# Altium footprint library LMX8410RGZT.PcbLib: 3 footprints
Each footprint in its own frame and in the unit in brackets; x right, y up, seen from the top. Pads: shape width x height; smd on the part's side, far side on the other; paste and mask are expansions set on the pad; w line width, h text height; cw(c..) or ccw(c..) is an arc to the next point about the centre after c.
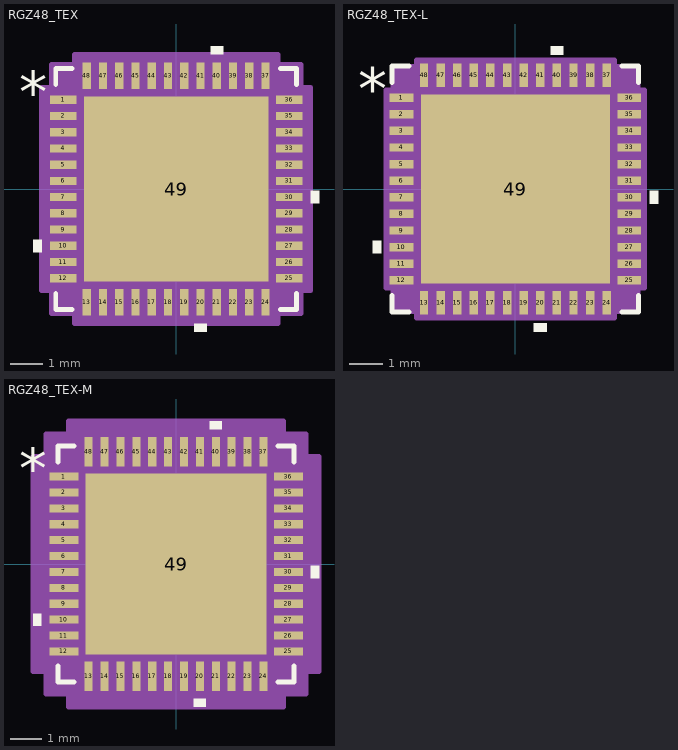
[diagram p0: the footprints below, top view; thin cyan lines are the x and y axes]

## RGZ48_TEX [mil]
pads (49):
  rect 32x10 smd paste+0 mask+0: 1(-137,108.27) 2(-137,88.58) 3(-137,68.9) 4(-137,49.21) 5(-137,29.53) 6(-137,9.84) 7(-137,-9.84) 8(-137,-29.53) 9(-137,-49.21) 10(-137,-68.9) 11(-137,-88.58) 12(-137,-108.27) 25(137,-108.27) 26(137,-88.58) 27(137,-68.9) 28(137,-49.21) 29(137,-29.53) 30(137,-9.84) 31(137,9.84) 32(137,29.53) 33(137,49.21) 34(137,68.9) 35(137,88.58) 36(137,108.27)
  rect 10x32 smd paste+0 mask+0: 13(-108.27,-137) 14(-88.58,-137) 15(-68.9,-137) 16(-49.21,-137) 17(-29.53,-137) 18(-9.84,-137) 19(9.84,-137) 20(29.53,-137) 21(49.21,-137) 22(68.9,-137) 23(88.58,-137) 24(108.27,-137) 37(108.27,137) 38(88.58,137) 39(68.9,137) 40(49.21,137) 41(29.53,137) 42(9.84,137) 43(-9.84,137) 44(-29.53,137) 45(-49.21,137) 46(-68.9,137) 47(-88.58,137) 48(-108.27,137)
  rect 224x224 smd paste-111.5 mask-111.5: 49(0,0)
Top Overlay:
  region: -163,-61.4 -173,-61.4 -173,-76.4 -163,-76.4
  region: 37.03,-163 22.03,-163 22.03,-173 37.03,-173
  region: 163,-2.34 173,-2.34 173,-17.34 163,-17.34
  region: 56.71,163 41.71,163 41.71,173 56.71,173
  lines w6: -146,-126.37 -146,-146 -126.37,-146 ; -146,126.37 -146,146 -126.37,146 ; 126.37,-146 146,-146 146,-126.37 ; 126.37,146 146,146 146,126.37
  text "*" at -190.5,93.11 h50
  text ".Designator" at -137.5,-25 h50
Top Paste:
  drawing of 64 lines, arcs and shapes, not listed
Top Solder:
  region: -114.5,100.87 -114.5,114.5 114.5,114.5 114.5,100.87
  region: -114.5,69.87 -114.5,85.13 114.5,85.13 114.5,69.87
  region: -114.5,38.87 -114.5,54.13 114.5,54.13 114.5,38.87
  region: -114.5,7.87 -114.5,23.13 114.5,23.13 114.5,7.87
  region: -114.5,-23.13 -114.5,-7.87 114.5,-7.87 114.5,-23.13
  region: -114.5,-54.13 -114.5,-38.87 114.5,-38.87 114.5,-54.13
  region: -114.5,-85.13 -114.5,-69.87 114.5,-69.87 114.5,-85.13
  region: -114.5,-114.5 -114.5,-100.87 114.5,-100.87 114.5,-114.5
  region: -114.5,-114.5 -114.5,114.5 -100.87,114.5 -100.87,-114.5
  region: -69.87,-114.5 -69.87,114.5 -85.13,114.5 -85.13,-114.5
  region: -38.87,-114.5 -38.87,114.5 -54.13,114.5 -54.13,-114.5
  region: -7.87,-114.5 -7.87,114.5 -23.13,114.5 -23.13,-114.5
  region: 23.13,-114.5 23.13,114.5 7.87,114.5 7.87,-114.5
  region: 54.13,-114.5 54.13,114.5 38.87,114.5 38.87,-114.5
  region: 85.13,-114.5 85.13,114.5 69.87,114.5 69.87,-114.5
  region: 100.87,-114.5 100.87,114.5 114.5,114.5 114.5,-114.5
Mechanical 13:
  drawing of 201 lines, arcs and shapes, not listed
  text ".Designator" at -137.5,-25 h50
  text "*" at -133.5,93.11 h50
Mechanical 15:
  region: -123.27,-151 -151,-151 -151,-123.27 -163,-123.27 -163,123.27 -151,123.27 -151,151 -123.27,151 -123.27,163 123.27,163 123.27,151 151,151 151,123.27 163,123.27 163,-123.27 151,-123.27 151,-151 123.27,-151 123.27,-163 -123.27,-163
  lines w6: -163,-123.27 -151,-123.27 -151,-151 -123.27,-151 -123.27,-163 123.27,-163 123.27,-151 151,-151 151,-123.27 163,-123.27 163,123.27 151,123.27 151,151 123.27,151 123.27,163 -123.27,163 -123.27,151 -151,151 -151,123.27 -163,123.27 -163,-123.27
Via Holes:
  circle w10: c-93,-93 r15
  circle w10: c-93,-62 r15
  circle w10: c-93,-31 r15
  circle w10: c-93,0 r15
  circle w10: c-93,31 r15
  circle w10: c-93,62 r15
  circle w10: c-93,93 r15
  circle w10: c-62,-93 r15
  circle w10: c-62,-62 r15
  circle w10: c-62,-31 r15
  circle w10: c-62,0 r15
  circle w10: c-62,31 r15
  circle w10: c-62,62 r15
  circle w10: c-62,93 r15
  circle w10: c-31,-93 r15
  circle w10: c-31,-62 r15
  circle w10: c-31,-31 r15
  circle w10: c-31,0 r15
  circle w10: c-31,31 r15
  circle w10: c-31,62 r15
  circle w10: c-31,93 r15
  circle w10: c0,-93 r15
  circle w10: c0,-62 r15
  circle w10: c0,-31 r15
  circle w10: c0,0 r15
  circle w10: c0,31 r15
  circle w10: c0,62 r15
  circle w10: c0,93 r15
  circle w10: c31,-93 r15
  circle w10: c31,-62 r15
  circle w10: c31,-31 r15
  circle w10: c31,0 r15
  circle w10: c31,31 r15
  circle w10: c31,62 r15
  circle w10: c31,93 r15
  circle w10: c62,-93 r15
  circle w10: c62,-62 r15
  circle w10: c62,-31 r15
  circle w10: c62,0 r15
  circle w10: c62,31 r15
  circle w10: c62,62 r15
  circle w10: c62,93 r15
  circle w10: c93,-93 r15
  circle w10: c93,-62 r15
  circle w10: c93,-31 r15
  circle w10: c93,0 r15
  circle w10: c93,31 r15
  circle w10: c93,62 r15
  circle w10: c93,93 r15
3D body "RGZ48_TEX.step": height 39.09, standoff 0, extent -140.98,-140.98 140.98,140.98

## RGZ48_TEX-L [mil]
pads (49):
  rect 28x10 smd paste+0 mask+0: 1(-135,108.27) 2(-135,88.58) 3(-135,68.9) 4(-135,49.21) 5(-135,29.53) 6(-135,9.84) 7(-135,-9.84) 8(-135,-29.53) 9(-135,-49.21) 10(-135,-68.9) 11(-135,-88.58) 12(-135,-108.27) 25(135,-108.27) 26(135,-88.58) 27(135,-68.9) 28(135,-49.21) 29(135,-29.53) 30(135,-9.84) 31(135,9.84) 32(135,29.53) 33(135,49.21) 34(135,68.9) 35(135,88.58) 36(135,108.27)
  rect 10x28 smd paste+0 mask+0: 13(-108.27,-135) 14(-88.58,-135) 15(-68.9,-135) 16(-49.21,-135) 17(-29.53,-135) 18(-9.84,-135) 19(9.84,-135) 20(29.53,-135) 21(49.21,-135) 22(68.9,-135) 23(88.58,-135) 24(108.27,-135) 37(108.27,135) 38(88.58,135) 39(68.9,135) 40(49.21,135) 41(29.53,135) 42(9.84,135) 43(-9.84,135) 44(-29.53,135) 45(-49.21,135) 46(-68.9,135) 47(-88.58,135) 48(-108.27,135)
  rect 224x224 smd paste-111.5 mask-111.5: 49(0,0)
Top Overlay:
  region: -159,-61.4 -169,-61.4 -169,-76.4 -159,-76.4
  region: 37.03,-159 22.03,-159 22.03,-169 37.03,-169
  region: 159,-2.34 169,-2.34 169,-17.34 159,-17.34
  region: 56.71,159 41.71,159 41.71,169 56.71,169
  lines w6: -146,-126.37 -146,-146 -126.37,-146 ; -146,126.37 -146,146 -126.37,146 ; 126.37,-146 146,-146 146,-126.37 ; 126.37,146 146,146 146,126.37
  text "*" at -186.5,93.11 h50
  text ".Designator" at -137.5,-25 h50
Top Paste:
  drawing of 64 lines, arcs and shapes, not listed
Top Solder:
  region: -114.5,100.87 -114.5,114.5 114.5,114.5 114.5,100.87
  region: -114.5,69.87 -114.5,85.13 114.5,85.13 114.5,69.87
  region: -114.5,38.87 -114.5,54.13 114.5,54.13 114.5,38.87
  region: -114.5,7.87 -114.5,23.13 114.5,23.13 114.5,7.87
  region: -114.5,-23.13 -114.5,-7.87 114.5,-7.87 114.5,-23.13
  region: -114.5,-54.13 -114.5,-38.87 114.5,-38.87 114.5,-54.13
  region: -114.5,-85.13 -114.5,-69.87 114.5,-69.87 114.5,-85.13
  region: -114.5,-114.5 -114.5,-100.87 114.5,-100.87 114.5,-114.5
  region: -114.5,-114.5 -114.5,114.5 -100.87,114.5 -100.87,-114.5
  region: -69.87,-114.5 -69.87,114.5 -85.13,114.5 -85.13,-114.5
  region: -38.87,-114.5 -38.87,114.5 -54.13,114.5 -54.13,-114.5
  region: -7.87,-114.5 -7.87,114.5 -23.13,114.5 -23.13,-114.5
  region: 23.13,-114.5 23.13,114.5 7.87,114.5 7.87,-114.5
  region: 54.13,-114.5 54.13,114.5 38.87,114.5 38.87,-114.5
  region: 85.13,-114.5 85.13,114.5 69.87,114.5 69.87,-114.5
  region: 100.87,-114.5 100.87,114.5 114.5,114.5 114.5,-114.5
Mechanical 13:
  drawing of 201 lines, arcs and shapes, not listed
  text ".Designator" at -137.5,-25 h50
  text "*" at -133.5,93.11 h50
Mechanical 15:
  region: -117.27,-145 -145,-145 -145,-117.27 -153,-117.27 -153,117.27 -145,117.27 -145,145 -117.27,145 -117.27,153 117.27,153 117.27,145 145,145 145,117.27 153,117.27 153,-117.27 145,-117.27 145,-145 117.27,-145 117.27,-153 -117.27,-153
  lines w6: -153,-117.27 -145,-117.27 -145,-145 -117.27,-145 -117.27,-153 117.27,-153 117.27,-145 145,-145 145,-117.27 153,-117.27 153,117.27 145,117.27 145,145 117.27,145 117.27,153 -117.27,153 -117.27,145 -145,145 -145,117.27 -153,117.27 -153,-117.27
Via Holes:
  circle w10: c-93,-93 r15
  circle w10: c-93,-62 r15
  circle w10: c-93,-31 r15
  circle w10: c-93,0 r15
  circle w10: c-93,31 r15
  circle w10: c-93,62 r15
  circle w10: c-93,93 r15
  circle w10: c-62,-93 r15
  circle w10: c-62,-62 r15
  circle w10: c-62,-31 r15
  circle w10: c-62,0 r15
  circle w10: c-62,31 r15
  circle w10: c-62,62 r15
  circle w10: c-62,93 r15
  circle w10: c-31,-93 r15
  circle w10: c-31,-62 r15
  circle w10: c-31,-31 r15
  circle w10: c-31,0 r15
  circle w10: c-31,31 r15
  circle w10: c-31,62 r15
  circle w10: c-31,93 r15
  circle w10: c0,-93 r15
  circle w10: c0,-62 r15
  circle w10: c0,-31 r15
  circle w10: c0,0 r15
  circle w10: c0,31 r15
  circle w10: c0,62 r15
  circle w10: c0,93 r15
  circle w10: c31,-93 r15
  circle w10: c31,-62 r15
  circle w10: c31,-31 r15
  circle w10: c31,0 r15
  circle w10: c31,31 r15
  circle w10: c31,62 r15
  circle w10: c31,93 r15
  circle w10: c62,-93 r15
  circle w10: c62,-62 r15
  circle w10: c62,-31 r15
  circle w10: c62,0 r15
  circle w10: c62,31 r15
  circle w10: c62,62 r15
  circle w10: c62,93 r15
  circle w10: c93,-93 r15
  circle w10: c93,-62 r15
  circle w10: c93,-31 r15
  circle w10: c93,0 r15
  circle w10: c93,31 r15
  circle w10: c93,62 r15
  circle w10: c93,93 r15
3D body "RGZ48_TEX.step": height 39.09, standoff 0, extent -140.98,-140.98 140.98,140.98

## RGZ48_TEX-M [mil]
pads (49):
  rect 36x10 smd paste+0 mask+0: 1(-139,108.27) 2(-139,88.58) 3(-139,68.9) 4(-139,49.21) 5(-139,29.53) 6(-139,9.84) 7(-139,-9.84) 8(-139,-29.53) 9(-139,-49.21) 10(-139,-68.9) 11(-139,-88.58) 12(-139,-108.27) 25(139,-108.27) 26(139,-88.58) 27(139,-68.9) 28(139,-49.21) 29(139,-29.53) 30(139,-9.84) 31(139,9.84) 32(139,29.53) 33(139,49.21) 34(139,68.9) 35(139,88.58) 36(139,108.27)
  rect 10x36 smd paste+0 mask+0: 13(-108.27,-139) 14(-88.58,-139) 15(-68.9,-139) 16(-49.21,-139) 17(-29.53,-139) 18(-9.84,-139) 19(9.84,-139) 20(29.53,-139) 21(49.21,-139) 22(68.9,-139) 23(88.58,-139) 24(108.27,-139) 37(108.27,139) 38(88.58,139) 39(68.9,139) 40(49.21,139) 41(29.53,139) 42(9.84,139) 43(-9.84,139) 44(-29.53,139) 45(-49.21,139) 46(-68.9,139) 47(-88.58,139) 48(-108.27,139)
  rect 224x224 smd paste-111.5 mask-111.5: 49(0,0)
Top Overlay:
  region: -167,-61.4 -177,-61.4 -177,-76.4 -167,-76.4
  region: 37.03,-167 22.03,-167 22.03,-177 37.03,-177
  region: 167,-2.34 177,-2.34 177,-17.34 167,-17.34
  region: 56.71,167 41.71,167 41.71,177 56.71,177
  lines w6: -146,-126.37 -146,-146 -126.37,-146 ; -146,126.37 -146,146 -126.37,146 ; 126.37,-146 146,-146 146,-126.37 ; 126.37,146 146,146 146,126.37
  text "*" at -194.5,93.11 h50
  text ".Designator" at -137.5,-25 h50
Top Paste:
  drawing of 64 lines, arcs and shapes, not listed
Top Solder:
  region: -114.5,100.87 -114.5,114.5 114.5,114.5 114.5,100.87
  region: -114.5,69.87 -114.5,85.13 114.5,85.13 114.5,69.87
  region: -114.5,38.87 -114.5,54.13 114.5,54.13 114.5,38.87
  region: -114.5,7.87 -114.5,23.13 114.5,23.13 114.5,7.87
  region: -114.5,-23.13 -114.5,-7.87 114.5,-7.87 114.5,-23.13
  region: -114.5,-54.13 -114.5,-38.87 114.5,-38.87 114.5,-54.13
  region: -114.5,-85.13 -114.5,-69.87 114.5,-69.87 114.5,-85.13
  region: -114.5,-114.5 -114.5,-100.87 114.5,-100.87 114.5,-114.5
  region: -114.5,-114.5 -114.5,114.5 -100.87,114.5 -100.87,-114.5
  region: -69.87,-114.5 -69.87,114.5 -85.13,114.5 -85.13,-114.5
  region: -38.87,-114.5 -38.87,114.5 -54.13,114.5 -54.13,-114.5
  region: -7.87,-114.5 -7.87,114.5 -23.13,114.5 -23.13,-114.5
  region: 23.13,-114.5 23.13,114.5 7.87,114.5 7.87,-114.5
  region: 54.13,-114.5 54.13,114.5 38.87,114.5 38.87,-114.5
  region: 85.13,-114.5 85.13,114.5 69.87,114.5 69.87,-114.5
  region: 100.87,-114.5 100.87,114.5 114.5,114.5 114.5,-114.5
Mechanical 13:
  drawing of 201 lines, arcs and shapes, not listed
  text ".Designator" at -137.5,-25 h50
  text "*" at -133.5,93.11 h50
Mechanical 15:
  region: -133.27,-161 -161,-161 -161,-133.27 -177,-133.27 -177,133.27 -161,133.27 -161,161 -133.27,161 -133.27,177 133.27,177 133.27,161 161,161 161,133.27 177,133.27 177,-133.27 161,-133.27 161,-161 133.27,-161 133.27,-177 -133.27,-177
  lines w6: -177,-133.27 -161,-133.27 -161,-161 -133.27,-161 -133.27,-177 133.27,-177 133.27,-161 161,-161 161,-133.27 177,-133.27 177,133.27 161,133.27 161,161 133.27,161 133.27,177 -133.27,177 -133.27,161 -161,161 -161,133.27 -177,133.27 -177,-133.27
Via Holes:
  circle w10: c-93,-93 r15
  circle w10: c-93,-62 r15
  circle w10: c-93,-31 r15
  circle w10: c-93,0 r15
  circle w10: c-93,31 r15
  circle w10: c-93,62 r15
  circle w10: c-93,93 r15
  circle w10: c-62,-93 r15
  circle w10: c-62,-62 r15
  circle w10: c-62,-31 r15
  circle w10: c-62,0 r15
  circle w10: c-62,31 r15
  circle w10: c-62,62 r15
  circle w10: c-62,93 r15
  circle w10: c-31,-93 r15
  circle w10: c-31,-62 r15
  circle w10: c-31,-31 r15
  circle w10: c-31,0 r15
  circle w10: c-31,31 r15
  circle w10: c-31,62 r15
  circle w10: c-31,93 r15
  circle w10: c0,-93 r15
  circle w10: c0,-62 r15
  circle w10: c0,-31 r15
  circle w10: c0,0 r15
  circle w10: c0,31 r15
  circle w10: c0,62 r15
  circle w10: c0,93 r15
  circle w10: c31,-93 r15
  circle w10: c31,-62 r15
  circle w10: c31,-31 r15
  circle w10: c31,0 r15
  circle w10: c31,31 r15
  circle w10: c31,62 r15
  circle w10: c31,93 r15
  circle w10: c62,-93 r15
  circle w10: c62,-62 r15
  circle w10: c62,-31 r15
  circle w10: c62,0 r15
  circle w10: c62,31 r15
  circle w10: c62,62 r15
  circle w10: c62,93 r15
  circle w10: c93,-93 r15
  circle w10: c93,-62 r15
  circle w10: c93,-31 r15
  circle w10: c93,0 r15
  circle w10: c93,31 r15
  circle w10: c93,62 r15
  circle w10: c93,93 r15
3D body "RGZ48_TEX.step": height 39.09, standoff 0, extent -140.98,-140.98 140.98,140.98